# Altium integrated library ON Semi Rectifiers.IntLib: 435 symbols (part 10 of 10)
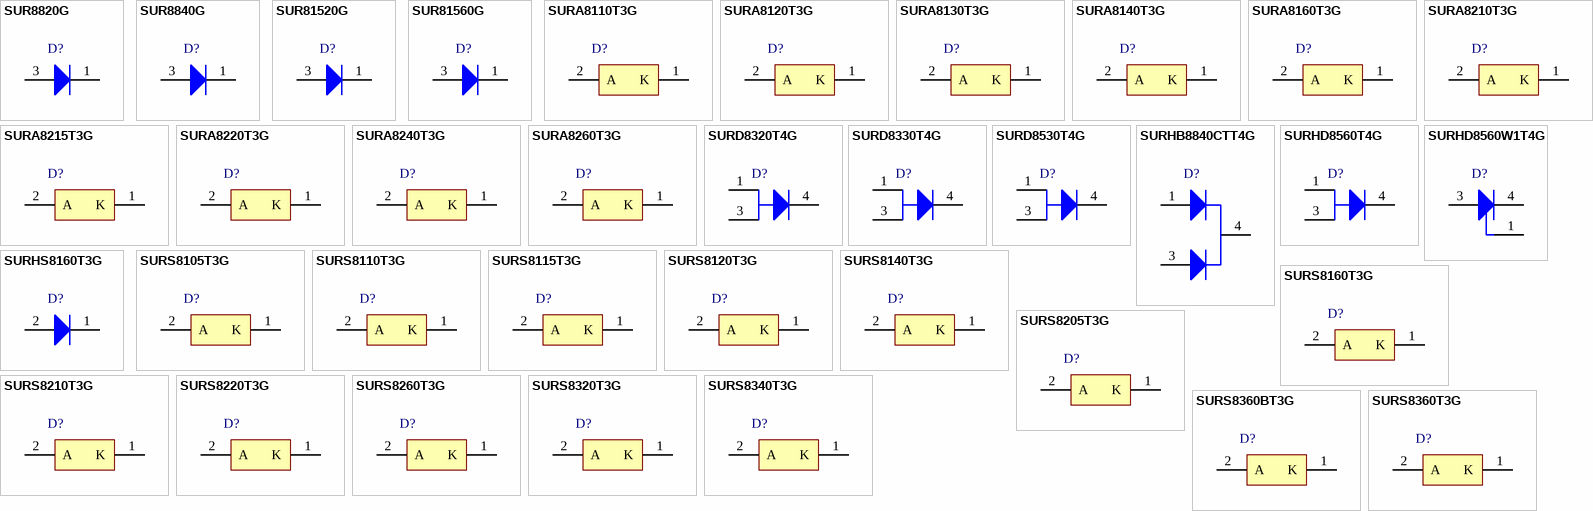
[diagram p19: symbols SUR8820G to SURS8360T3G]

## SURS8115T3G
designator D?
Surface Mount Ultrafast Power Rectifier, 2-Pin SMB, Pb-Free, Tape and Reel; Manufacturer: On Semiconductor; PartNumber: SURS8115T3G; IFSM Max (A): 40; VRRM Max (V): 150; DatasheetVersion: Rev. 12; PackageVersion: Rev. J, 07/2012; PackageReference: SMB-2-403A-03; PackageDescription: 2-Pin Small Molded Package, J-Bend Lead, Body 4.33 x 3.625 mm; Supplier 1: Digi-Key; Supplier Part Number 1: SURS8115T3G-ND; Supplier 2: Mouser; Supplier Part Number 2: 863-SURS8115T3G; Packing: Tape and Reel; RoHS: TRUE; Type: Ultrafast; Mounting Technology: Surface Mount; ComponentLink1Description: Manufacturer URL; ComponentLink1URL: http://www.onsemi.com/; ComponentLink2Description: Datasheet; ComponentLink2URL: http://www.onsemi.cn/pub_link/Collateral/MURS120T3-D.PDF; ComponentLink3Description: Package Specification; ComponentLink3URL: http://www.onsemi.com/pub_link/Collateral/403A-03.PDF
footprint ONSC-SMB-2-403A-03_V (Molded, 2-Leads, Body 4.6x3.95mm)
pins: 1 K, 2 A

## SURS8120T3G
designator D?
Surface Mount Ultrafast Power Rectifier, 2-Pin SMB, Pb-Free, Tape and Reel; Manufacturer: On Semiconductor; PartNumber: SURS8120T3G; IFSM Max (A): 40; VRRM Max (V): 200; DatasheetVersion: Rev. 12; PackageVersion: Rev. J, 07/2012; PackageReference: SMB-2-403A-03; PackageDescription: 2-Pin Small Molded Package, J-Bend Lead, Body 4.33 x 3.625 mm; Supplier 1: Digi-Key; Supplier Part Number 1: SURS8120T3G-ND; Supplier 2: Mouser; Supplier Part Number 2: 863-SURS8120T3G; Packing: Tape and Reel; RoHS: TRUE; Type: Ultrafast; Mounting Technology: Surface Mount; ComponentLink1Description: Manufacturer URL; ComponentLink1URL: http://www.onsemi.com/; ComponentLink2Description: Datasheet; ComponentLink2URL: http://www.onsemi.cn/pub_link/Collateral/MURS120T3-D.PDF; ComponentLink3Description: Package Specification; ComponentLink3URL: http://www.onsemi.com/pub_link/Collateral/403A-03.PDF
footprint ONSC-SMB-2-403A-03_V (Molded, 2-Leads, Body 4.6x3.95mm)
pins: 1 K, 2 A

## SURS8140T3G
designator D?
Surface Mount Ultrafast Power Rectifier, 2-Pin SMB, Pb-Free, Tape and Reel; Manufacturer: On Semiconductor; PartNumber: SURS8140T3G; IFSM Max (A): 35; VRRM Max (V): 400; DatasheetVersion: Rev. 12; PackageVersion: Rev. J, 07/2012; PackageReference: SMB-2-403A-03; PackageDescription: 2-Pin Small Molded Package, J-Bend Lead, Body 4.33 x 3.625 mm; Supplier 1: Digi-Key; Supplier Part Number 1: SURS8140T3G-ND; Supplier 2: Mouser; Supplier Part Number 2: 863-SURS8140T3G; Packing: Tape and Reel; RoHS: TRUE; Type: Ultrafast; Mounting Technology: Surface Mount; ComponentLink1Description: Manufacturer URL; ComponentLink1URL: http://www.onsemi.com/; ComponentLink2Description: Datasheet; ComponentLink2URL: http://www.onsemi.cn/pub_link/Collateral/MURS120T3-D.PDF; ComponentLink3Description: Package Specification; ComponentLink3URL: http://www.onsemi.com/pub_link/Collateral/403A-03.PDF
footprint ONSC-SMB-2-403A-03_V (Molded, 2-Leads, Body 4.6x3.95mm)
pins: 1 K, 2 A

## SURS8160T3G
designator D?
Surface Mount Ultrafast Power Rectifier, 2-Pin SMB, Pb-Free, Tape and Reel; Manufacturer: On Semiconductor; PartNumber: SURS8160T3G; IFSM Max (A): 35; VRRM Max (V): 600; DatasheetVersion: Rev. 12; PackageVersion: Rev. J, 07/2012; PackageReference: SMB-2-403A-03; PackageDescription: 2-Pin Small Molded Package, J-Bend Lead, Body 4.33 x 3.625 mm; Supplier 1: Digi-Key; Supplier Part Number 1: SURS8160T3G-ND; Supplier 2: Mouser; Supplier Part Number 2: 863-SURS8160T3G; Packing: Tape and Reel; RoHS: TRUE; Type: Ultrafast; Mounting Technology: Surface Mount; ComponentLink1Description: Manufacturer URL; ComponentLink1URL: http://www.onsemi.com/; ComponentLink2Description: Datasheet; ComponentLink2URL: http://www.onsemi.cn/pub_link/Collateral/MURS120T3-D.PDF; ComponentLink3Description: Package Specification; ComponentLink3URL: http://www.onsemi.com/pub_link/Collateral/403A-03.PDF
footprint ONSC-SMB-2-403A-03_V (Molded, 2-Leads, Body 4.6x3.95mm)
pins: 1 K, 2 A

## SURS8205T3G
designator D?
Surface Mount Ultrafast Power Rectifier, 2-Pin SMB, Pb-Free, Tape and Reel; Manufacturer: On Semiconductor; PartNumber: SURS8205T3G; IFSM Max (A): 50; DatasheetVersion: Rev. 2; PackageVersion: Rev. H, 05/2011; PackageReference: SMB-2-403A-03_H; PackageDescription: 2-Pin Small Molded Package, J-Bend Lead, Body 4.33 x 3.625 mm; Supplier 1: Digi-Key; Supplier Part Number 1: SURS8205T3G-ND; Supplier 2: Mouser; Supplier Part Number 2: 863-SURS8205T3G; Packing: Tape and Reel; RoHS: TRUE; Type: Ultrafast; Mounting Technology: Surface Mount; ComponentLink1Description: Manufacturer URL; ComponentLink1URL: http://www.onsemi.com/; ComponentLink2Description: Datasheet; ComponentLink2URL: http://www.onsemi.cn/pub_link/Collateral/MURS205T3-D.PDF; ComponentLink3Description: Package Specification; ComponentLink3URL: http://www.onsemi.com/pub_link/Collateral/1SMB5913BT3-D.PDF
footprint ONSC-SMB-2-403A-03_H_V (Molded, 2-Leads, Body 4.6x3.95mm)
pins: 1 K, 2 A

## SURS8210T3G
designator D?
Surface Mount Ultrafast Power Rectifier, 2-Pin SMB, Pb-Free, Tape and Reel; Manufacturer: On Semiconductor; PartNumber: SURS8210T3G; IFSM Max (A): 50; DatasheetVersion: Rev. 2; PackageVersion: Rev. H, 05/2011; PackageReference: SMB-2-403A-03_H; PackageDescription: 2-Pin Small Molded Package, J-Bend Lead, Body 4.33 x 3.625 mm; Supplier 1: Digi-Key; Supplier Part Number 1: SURS8210T3G-ND; Supplier 2: Mouser; Supplier Part Number 2: 863-SURS8210T3G; Packing: Tape and Reel; RoHS: TRUE; Type: Ultrafast; Mounting Technology: Surface Mount; ComponentLink1Description: Manufacturer URL; ComponentLink1URL: http://www.onsemi.com/; ComponentLink2Description: Datasheet; ComponentLink2URL: http://www.onsemi.cn/pub_link/Collateral/MURS205T3-D.PDF; ComponentLink3Description: Package Specification; ComponentLink3URL: http://www.onsemi.com/pub_link/Collateral/1SMB5913BT3-D.PDF
footprint ONSC-SMB-2-403A-03_H_V (Molded, 2-Leads, Body 4.6x3.95mm)
pins: 1 K, 2 A

## SURS8220T3G
designator D?
Surface Mount Ultrafast Power Rectifier, 2-Pin SMB, Pb-Free, Tape and Reel; Manufacturer: On Semiconductor; PartNumber: SURS8220T3G; IFSM Max (A): 40; VRRM Max (V): 200; DatasheetVersion: Rev. 3; PackageVersion: Rev. H, 05/2011; PackageReference: SMB-2-403A-03_H; PackageDescription: 2-Pin Small Molded Package, J-Bend Lead, Body 4.33 x 3.625 mm; Supplier 1: Digi-Key; Supplier Part Number 1: SURS8220T3GOSTR-ND; Supplier 2: Digi-Key; Supplier Part Number 2: SURS8220T3GOSCT-ND; Supplier 3: Digi-Key; Supplier Part Number 3: SURS8220T3GOSDKR-ND; Supplier 4: Newark; Supplier Part Number 4: 75M5665; Supplier 5: Mouser; Supplier Part Number 5: 863-SURS8220T3G; Packing: Tape and Reel; RoHS: TRUE; Type: Ultrafast; Mounting Technology: Surface Mount; ComponentLink1Description: Manufacturer URL; ComponentLink1URL: http://www.onsemi.com/; ComponentLink2Description: Datasheet; ComponentLink2URL: http://www.onsemi.cn/pub_link/Collateral/MURS220T3-D.PDF; ComponentLink3Description: Package Specification; ComponentLink3URL: http://www.onsemi.com/pub_link/Collateral/1SMB5913BT3-D.PDF
footprint ONSC-SMB-2-403A-03_H_V (Molded, 2-Leads, Body 4.6x3.95mm)
pins: 1 K, 2 A

## SURS8260T3G
designator D?
Surface Mount Ultrafast Power Rectifier, 2-Pin SMB, Pb-Free, Tape and Reel; Manufacturer: On Semiconductor; PartNumber: SURS8260T3G; IFSM Max (A): 35; VRRM Max (V): 600; DatasheetVersion: Rev. 3; PackageVersion: Rev. H, 05/2011; PackageReference: SMB-2-403A-03_H; PackageDescription: 2-Pin Small Molded Package, J-Bend Lead, Body 4.33 x 3.625 mm; Supplier 1: Digi-Key; Supplier Part Number 1: SURS8260T3G-ND; Supplier 2: Mouser; Supplier Part Number 2: 863-SURS8260T3G; Packing: Tape and Reel; RoHS: TRUE; Type: Ultrafast; Mounting Technology: Surface Mount; ComponentLink1Description: Manufacturer URL; ComponentLink1URL: http://www.onsemi.com/; ComponentLink2Description: Datasheet; ComponentLink2URL: http://www.onsemi.cn/pub_link/Collateral/MURS260T3-D.PDF; ComponentLink3Description: Package Specification; ComponentLink3URL: http://www.onsemi.com/pub_link/Collateral/1SMB5913BT3-D.PDF
footprint ONSC-SMB-2-403A-03_H_V (Molded, 2-Leads, Body 4.6x3.95mm)
pins: 1 K, 2 A

## SURS8320T3G
designator D?
Surface Mount Ultrafast Power Rectifier, 2-Pin SMC, Pb-Free, Tape and Reel; Manufacturer: On Semiconductor; PartNumber: SURS8320T3G; IFSM Max (A): 100; VRRM Max (V): 200; DatasheetVersion: Rev. 13; PackageVersion: Rev. E, 08/2005; PackageReference: SMC-2-403-03; PackageDescription: 2-Pin Small Molded Package, J-Bend Lead, Body 5.845 x 6.855 mm; Supplier 1: Digi-Key; Supplier Part Number 1: SURS8320T3G-ND; Supplier 2: Newark; Supplier Part Number 2: 76T7464; Supplier 3: Mouser; Supplier Part Number 3: 863-SURS8320T3G; Packing: Tape and Reel; RoHS: TRUE; Type: Ultrafast; Mounting Technology: Surface Mount; ComponentLink1Description: Manufacturer URL; ComponentLink1URL: http://www.onsemi.com/; ComponentLink2Description: Datasheet; ComponentLink2URL: http://www.onsemi.cn/pub_link/Collateral/MURS320T3-D.PDF; ComponentLink3Description: Package Specification; ComponentLink3URL: http://www.onsemi.com/pub_link/Collateral/403-03.PDF
footprint ONSC-SMC-2-403-03_V (Molded, 2-Leads, Body 6.86x5.84mm)
pins: 1 K, 2 A

## SURS8340T3G
designator D?
Surface Mount Ultrafast Power Rectifier, 2-Pin SMC, Pb-Free, Tape and Reel; Manufacturer: On Semiconductor; PartNumber: SURS8340T3G; IFSM Max (A): 100; VRRM Max (V): 400; DatasheetVersion: Rev. 13; PackageVersion: Rev. E, 08/2005; PackageReference: SMC-2-403-03; PackageDescription: 2-Pin Small Molded Package, J-Bend Lead, Body 5.845 x 6.855 mm; Supplier 1: Digi-Key; Supplier Part Number 1: SURS8340T3G-ND; Supplier 2: Newark; Supplier Part Number 2: 76T7465; Supplier 3: Mouser; Supplier Part Number 3: 863-SURS8340T3G; Packing: Tape and Reel; RoHS: TRUE; Type: Ultrafast; Mounting Technology: Surface Mount; ComponentLink1Description: Manufacturer URL; ComponentLink1URL: http://www.onsemi.com/; ComponentLink2Description: Datasheet; ComponentLink2URL: http://www.onsemi.cn/pub_link/Collateral/MURS320T3-D.PDF; ComponentLink3Description: Package Specification; ComponentLink3URL: http://www.onsemi.com/pub_link/Collateral/403-03.PDF
footprint ONSC-SMC-2-403-03_V (Molded, 2-Leads, Body 6.86x5.84mm)
pins: 1 K, 2 A

## SURS8360BT3G
designator D?
Surface Mount Ultrafast Power Rectifier, 2-Pin SMB, Pb-Free, Tape and Reel; Manufacturer: On Semiconductor; PartNumber: SURS8360BT3G; IFSM Max (A): 100; VRRM Max (V): 600; DatasheetVersion: Rev. 5; PackageVersion: Rev. J, 07/2012; PackageReference: SMB-2-403A-03; PackageDescription: 2-Pin Small Molded Package, J-Bend Lead, Body 4.33 x 3.625 mm; Supplier 1: Digi-Key; Supplier Part Number 1: SURS8360BT3G-ND; Supplier 2: Newark; Supplier Part Number 2: 76T7466; Supplier 3: Mouser; Supplier Part Number 3: 863-SURS8360BT3G; Packing: Tape and Reel; RoHS: TRUE; Type: Ultrafast; Mounting Technology: Surface Mount; ComponentLink1Description: Manufacturer URL; ComponentLink1URL: http://www.onsemi.com/; ComponentLink2Description: Datasheet; ComponentLink2URL: http://www.onsemi.cn/pub_link/Collateral/MURS360BT3-D.PDF; ComponentLink3Description: Package Specification; ComponentLink3URL: http://www.onsemi.com/pub_link/Collateral/403A-03.PDF
footprint ONSC-SMB-2-403A-03_V (Molded, 2-Leads, Body 4.6x3.95mm)
pins: 1 K, 2 A

## SURS8360T3G
designator D?
Surface Mount Ultrafast Power Rectifier, 2-Pin SMC, Pb-Free, Tape and Reel; Manufacturer: On Semiconductor; PartNumber: SURS8360T3G; IFSM Max (A): 100; VRRM Max (V): 600; DatasheetVersion: Rev. 13; PackageVersion: Rev. E, 08/2005; PackageReference: SMC-2-403-03; PackageDescription: 2-Pin Small Molded Package, J-Bend Lead, Body 5.845 x 6.855 mm; Supplier 1: Digi-Key; Supplier Part Number 1: SURS8360T3G-ND; Supplier 2: Mouser; Supplier Part Number 2: 863-SURS8360T3G; Packing: Tape and Reel; RoHS: TRUE; Type: Ultrafast; Mounting Technology: Surface Mount; ComponentLink1Description: Manufacturer URL; ComponentLink1URL: http://www.onsemi.com/; ComponentLink2Description: Datasheet; ComponentLink2URL: http://www.onsemi.cn/pub_link/Collateral/MURS320T3-D.PDF; ComponentLink3Description: Package Specification; ComponentLink3URL: http://www.onsemi.com/pub_link/Collateral/403-03.PDF
footprint ONSC-SMC-2-403-03_V (Molded, 2-Leads, Body 6.86x5.84mm)
pins: 1 K, 2 A